# Altium schematic symbol library LDO.SchLib: 3 symbols
Pins are listed as number, name and electrical type; pins without a type are passive.

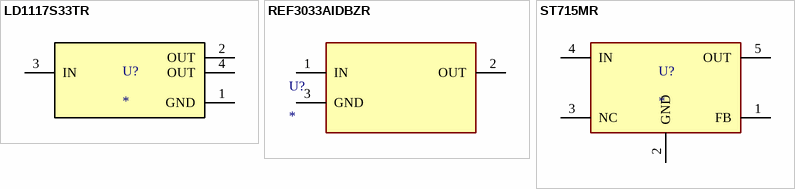
[diagram p0: symbols LD1117S33TR to ST715MR]

## LD1117S33TR
designator U?
Linear Voltage Regulator IC Positive Fixed 1 Output 800mA SOT-223
footprint LD1117S33TR (Linear Voltage Regulator IC Positive Fixed 1 Output 800mA SOT-223)
pins: 1 GND (power), 2 OUT (power), 3 IN (power), 4 OUT (power)

## REF3033AIDBZR
designator U?
3.3-V voltage reference;   50-ppm/°C, 50-µA in 3-pin SOT-23 package series (bandgap)
footprint REF3033AIDBZR (3.3-V voltage reference;   50-ppm/°C, 50-µA in 3-pin SOT-23 package series (bandgap))
pins: 1 IN (power), 2 OUT (power), 3 GND

## ST715MR
designator U?
Linear Voltage Regulator IC Positive Adjustable 1 Output 85mA SOT-23-5
footprint ST715MR (Linear Voltage Regulator IC Positive Adjustable 1 Output 85mA SOT-23-5)
pins: 1 FB (power), 2 GND, 3 NC, 4 IN, 5 OUT (power)